# Altium schematic symbol library Display_Character.SchLib: 130 symbols (part 2 of 2)
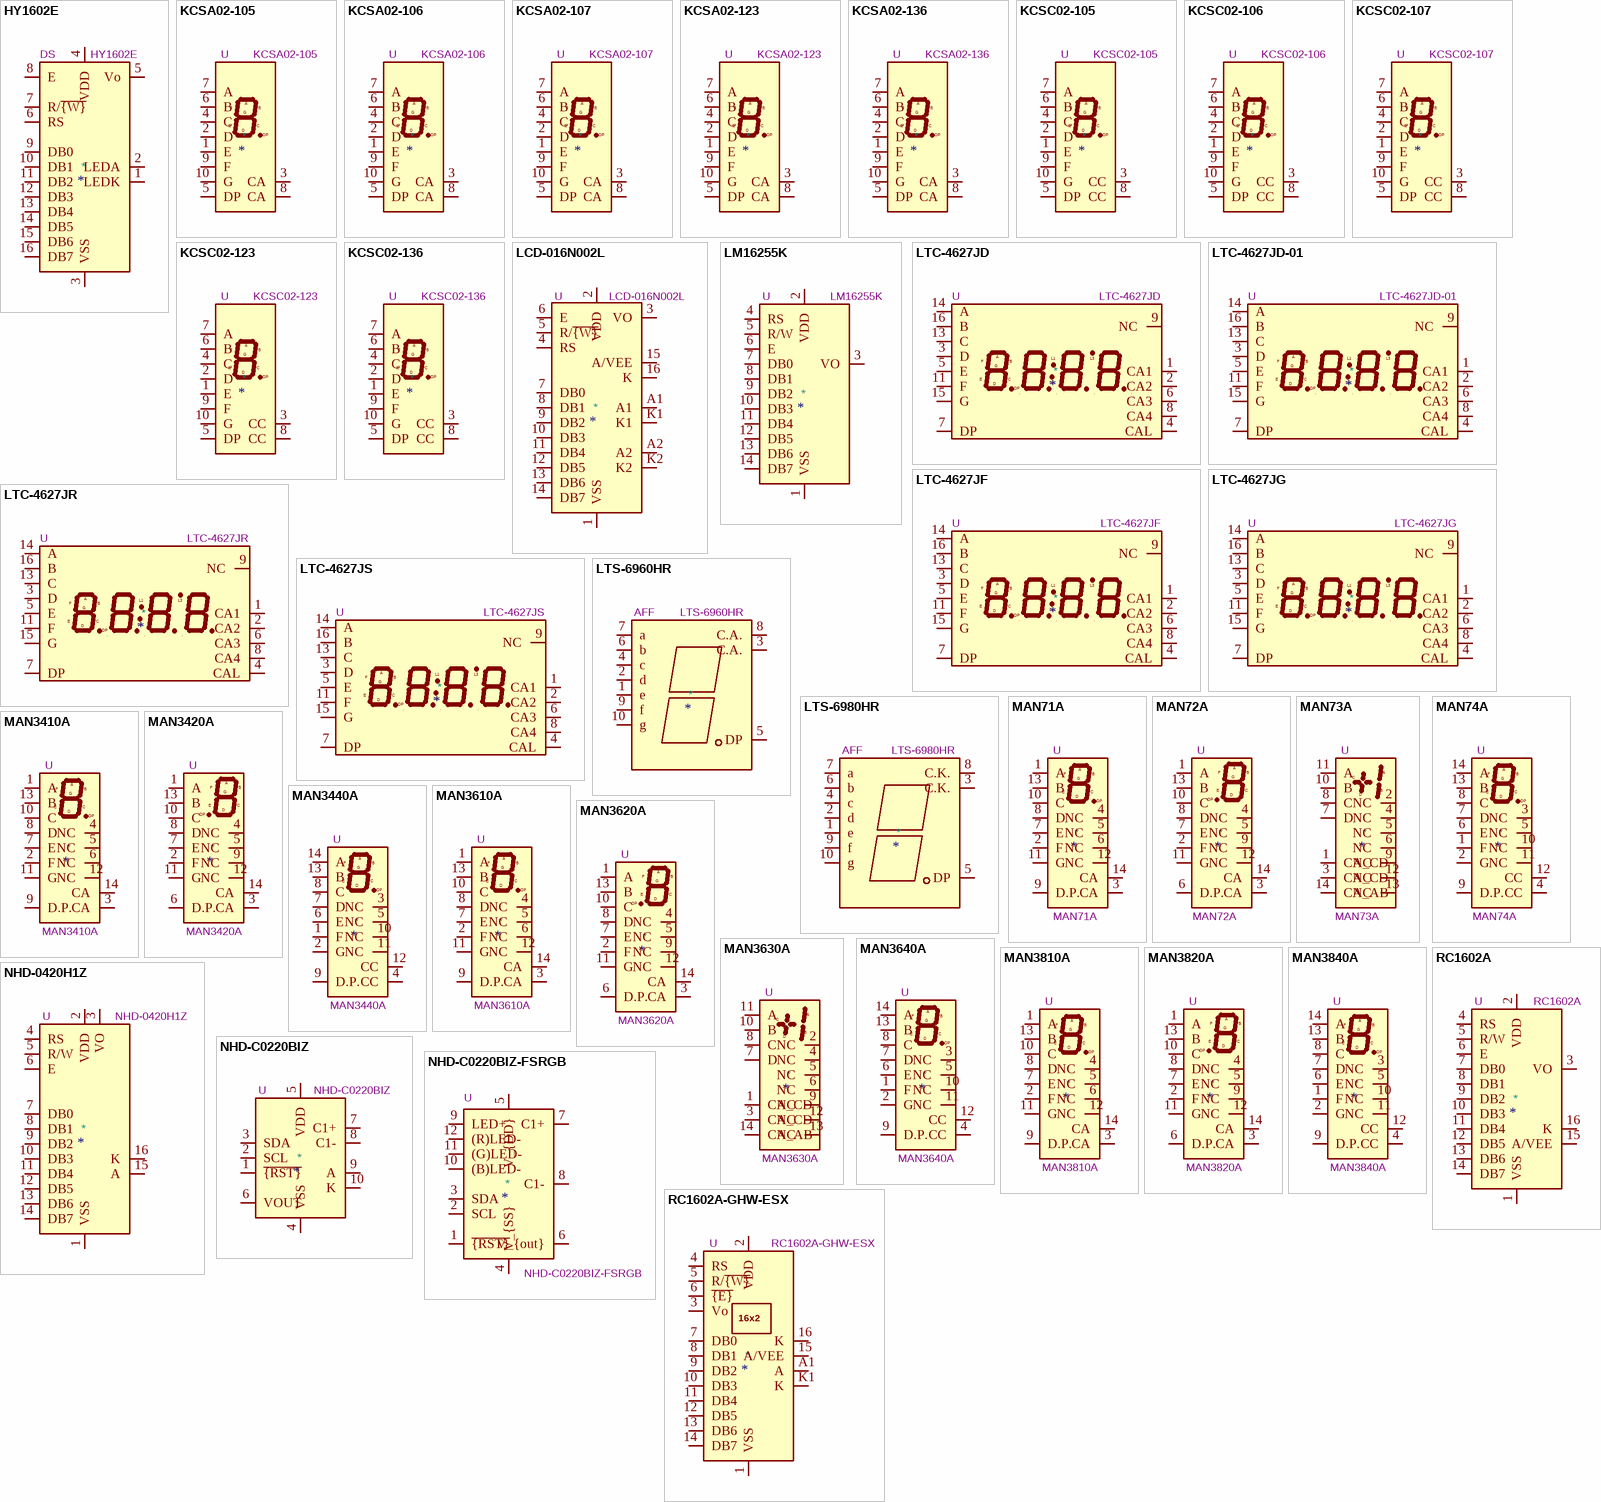
[diagram p4: symbols HY1602E to RC1602A-GHW-ESX]

## NHD-C0220BIZ
designator *  value NHD-C0220BIZ  Reference: U
LCD 20x2 Alphanumeric 10pin Blue/White/Green Backlight, i2c, 3.3V VDD; ki_keywords: display LCD 20x2; ki_fp_filters: NHD*C0220BiZ*; Footprint: Display:NHD-C0220BiZ; Datasheet: http://www.newhavendisplay.com/specs/NHD-C0220BiZ-FSW-FBW-3V3M.pdf; Description_: LCD 20x2 Alphanumeric 10pin Blue/White/Green Backlight, i2c, 3.3V VDD
pins: 1 ~{{RST}}, 2 SCL, 3 SDA, 4 VSS, 5 VDD, 6 VOUT, 7 C1+, 8 C1-, 9 A, 10 K

## NHD-C0220BIZ-FSRGB
designator *  value NHD-C0220BIZ-FSRGB  Reference: U
2x20 character LCD module with common anode RGB backlight, I2C, 3.3V; ki_keywords: lcd rgb character st736i i2c 2-wire twi; ki_fp_filters: NHD?C0220BiZ?FSRGB*; Footprint: Display:NHD-C0220BiZ-FSRGB; Datasheet: https://newhavendisplay.com/content/specs/NHD-C0220BiZ-FSRGB-FBW-3VM.pdf; Description_: 2x20 character LCD module with common anode RGB backlight, I2C, 3.3V
pins: 1 ~{{RST}}, 2 SCL, 3 SDA, 4 V_{SS}, 5 V_{DD}, 6 V_{out}, 7 C1+, 8 C1-, 9 LED+, 10 (B)LED-, 11 (G)LED-, 12 (R)LED-

## RC1602A
designator *  value RC1602A  Reference: U
LCD 16x2 Alphanumeric gray backlight, 3 or 5V VDD; ki_keywords: display LCD dot-matrix; ki_fp_filters: *RC1602A*; Footprint: Display:RC1602A; Datasheet: http://www.raystar-optronics.com/down.php?ProID=18; Description_: LCD 16x2 Alphanumeric gray backlight, 3 or 5V VDD
pins: 1 VSS, 2 VDD, 3 VO, 4 RS, 5 R/W, 6 E, 7 DB0, 8 DB1, 9 DB2, 10 DB3, 11 DB4, 12 DB5, 13 DB6, 14 DB7, 15 A/VEE, 16 K

## RC1602A-GHW-ESX
designator *  value RC1602A-GHW-ESX  Reference: U
LCD 16x2 Alphanumeric 16pin Gray Backlight; ki_keywords: display LCD dot-matrix; ki_fp_filters: RC1602A*; Footprint: Display:RC1602A; Datasheet: http://www.raystar-optronics.com/down.php?ProID=18; Description_: LCD 16x2 Alphanumeric 16pin Gray Backlight
pins: 1 VSS, 2 VDD, 3 Vo, 4 RS, 5 R/~{{W}}, 6 ~{{E}}, 7 DB0, 8 DB1, 9 DB2, 10 DB3, 11 DB4, 12 DB5, 13 DB6, 14 DB7, 15 A/VEE, 16 K, A1 A, K1 K
text: 16x2

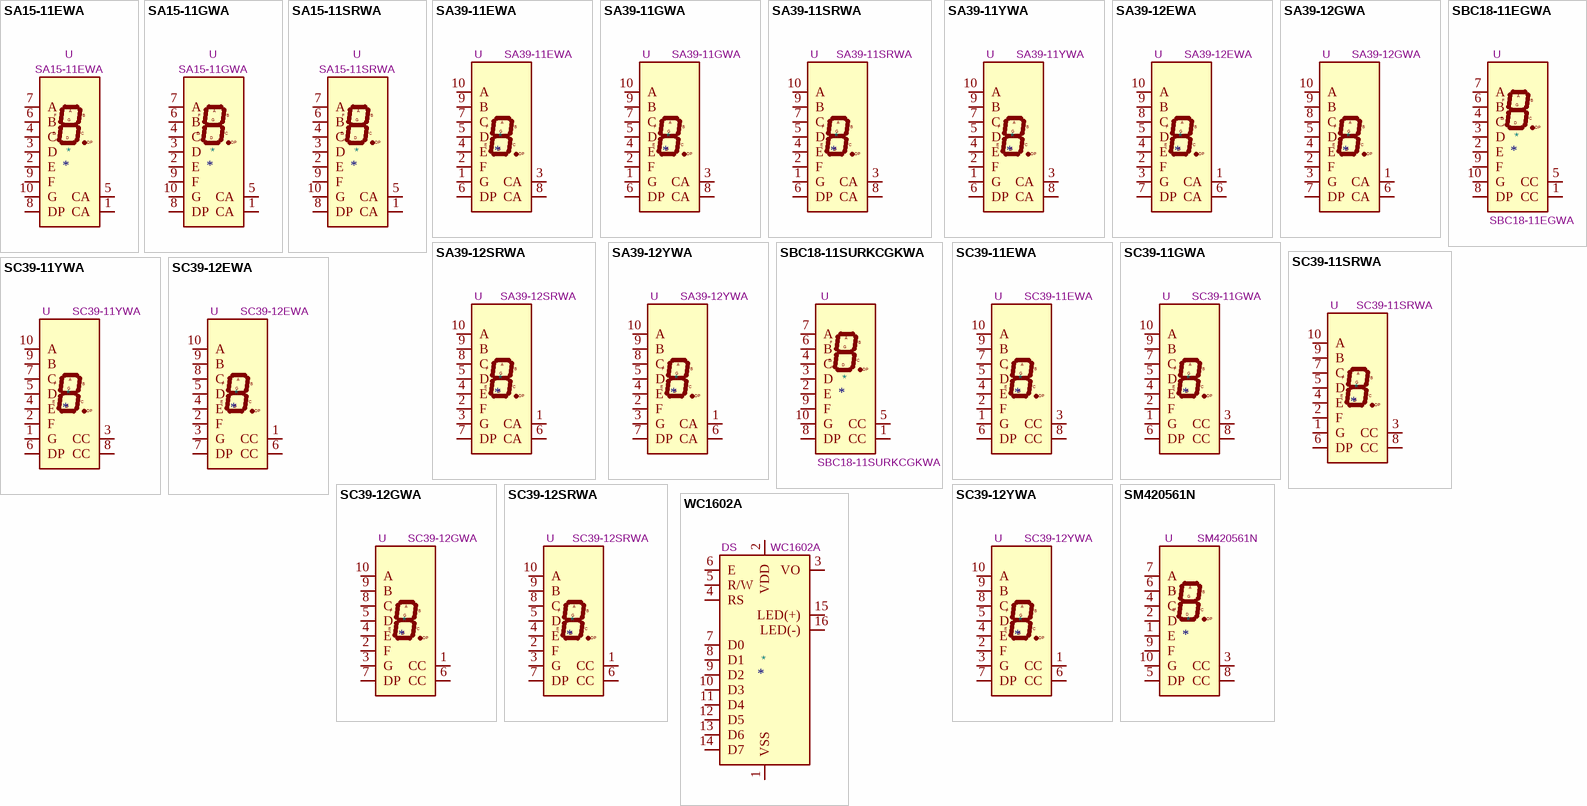
[diagram p3: symbols SA15-11EWA to WC1602A]

## SA15-11EWA
designator *  value SA15-11EWA  Reference: U
High Efficiency Red Single-digit Numeric Display with white white diffused lens, common anode; ki_keywords: display LED 7-segment; ki_fp_filters: SA15?11*; Footprint: Display_7Segment:SA15-11xxx; Datasheet: http://www.kingbrightusa.com/images/catalog/SPEC/SA15-11EWA.pdf; Description_: High Efficiency Red Single-digit Numeric Display with white white diffused lens, common anode
pins: 1 CA, 2 E, 3 D, 4 C, 5 CA, 6 B, 7 A, 8 DP, 9 F, 10 G

## SA15-11GWA
designator *  value SA15-11GWA  Reference: U
Green Single-digit Numeric Display with white white diffused lens, common anode; ki_keywords: display LED 7-segment; ki_fp_filters: SA15?11*; Footprint: Display_7Segment:SA15-11xxx; Datasheet: http://www.kingbrightusa.com/images/catalog/SPEC/SA15-11GWA.pdf; Description_: Green Single-digit Numeric Display with white white diffused lens, common anode
pins: 1 CA, 2 E, 3 D, 4 C, 5 CA, 6 B, 7 A, 8 DP, 9 F, 10 G

## SA15-11SRWA
designator *  value SA15-11SRWA  Reference: U
Super Bright Red Single-digit Numeric Display with white white diffused lens, common anode; ki_keywords: display LED 7-segment; ki_fp_filters: SA15?11*; Footprint: Display_7Segment:SA15-11xxx; Datasheet: http://www.kingbrightusa.com/images/catalog/SPEC/SA15-11SRWA.pdf; Description_: Super Bright Red Single-digit Numeric Display with white white diffused lens, common anode
pins: 1 CA, 2 E, 3 D, 4 C, 5 CA, 6 B, 7 A, 8 DP, 9 F, 10 G

## SA39-11EWA
designator *  value SA39-11EWA  Reference: U
Single digit 7 segment display, high efficiency red, common anode; ki_keywords: display LED 7-segment; ki_fp_filters: S?39?1*; Footprint: Display_7Segment:Sx39-1xxxxx; Datasheet: http://www.kingbrightusa.com/images/catalog/SPEC/sa39-11ewa.pdf; Description_: Single digit 7 segment display, high efficiency red, common anode
pins: 1 G, 2 F, 3 CA, 4 E, 5 D, 6 DP, 7 C, 8 CA, 9 B, 10 A

## SA39-11GWA
designator *  value SA39-11GWA  Reference: U
Single digit 7 segment display, green, common anode; ki_keywords: display LED 7-segment; ki_fp_filters: S?39?1*; Footprint: Display_7Segment:Sx39-1xxxxx; Datasheet: http://www.kingbrightusa.com/images/catalog/SPEC/sa39-11gwa.pdf; Description_: Single digit 7 segment display, green, common anode
pins: 1 G, 2 F, 3 CA, 4 E, 5 D, 6 DP, 7 C, 8 CA, 9 B, 10 A

## SA39-11SRWA
designator *  value SA39-11SRWA  Reference: U
Single digit 7 segment display, super bright red, common anode; ki_keywords: display LED 7-segment; ki_fp_filters: S?39?1*; Footprint: Display_7Segment:Sx39-1xxxxx; Datasheet: http://www.kingbrightusa.com/images/catalog/SPEC/sa39-11srwa.pdf; Description_: Single digit 7 segment display, super bright red, common anode
pins: 1 G, 2 F, 3 CA, 4 E, 5 D, 6 DP, 7 C, 8 CA, 9 B, 10 A

## SA39-11YWA
designator *  value SA39-11YWA  Reference: U
Single digit 7 segment display, yellow, common anode; ki_keywords: display LED 7-segment; ki_fp_filters: S?39?1*; Footprint: Display_7Segment:Sx39-1xxxxx; Datasheet: http://www.kingbrightusa.com/images/catalog/SPEC/sa39-11ywa.pdf; Description_: Single digit 7 segment display, yellow, common anode
pins: 1 G, 2 F, 3 CA, 4 E, 5 D, 6 DP, 7 C, 8 CA, 9 B, 10 A

## SA39-12EWA
designator *  value SA39-12EWA  Reference: U
Single digit 7 segment display, high efficiency red, common anode; ki_keywords: display LED 7-segment; ki_fp_filters: S?39?1*; Footprint: Display_7Segment:Sx39-1xxxxx; Datasheet: http://www.kingbrightusa.com/images/catalog/SPEC/sa39-12ewa.pdf; Description_: Single digit 7 segment display, high efficiency red, common anode
pins: 1 CA, 2 F, 3 G, 4 E, 5 D, 6 CA, 7 DP, 8 C, 9 B, 10 A

## SA39-12GWA
designator *  value SA39-12GWA  Reference: U
Single digit 7 segment display, green, common anode; ki_keywords: display LED 7-segment; ki_fp_filters: S?39?1*; Footprint: Display_7Segment:Sx39-1xxxxx; Datasheet: http://www.kingbrightusa.com/images/catalog/SPEC/sa39-12gwa.pdf; Description_: Single digit 7 segment display, green, common anode
pins: 1 CA, 2 F, 3 G, 4 E, 5 D, 6 CA, 7 DP, 8 C, 9 B, 10 A

## SA39-12SRWA
designator *  value SA39-12SRWA  Reference: U
Single digit 7 segment display, super bright red, common anode; ki_keywords: display LED 7-segment; ki_fp_filters: S?39?1*; Footprint: Display_7Segment:Sx39-1xxxxx; Datasheet: http://www.kingbrightusa.com/images/catalog/SPEC/sa39-12srwa.pdf; Description_: Single digit 7 segment display, super bright red, common anode
pins: 1 CA, 2 F, 3 G, 4 E, 5 D, 6 CA, 7 DP, 8 C, 9 B, 10 A

## SA39-12YWA
designator *  value SA39-12YWA  Reference: U
Single digit 7 segment display, yellow, common anode; ki_keywords: display LED 7-segment; ki_fp_filters: S?39?1*; Footprint: Display_7Segment:Sx39-1xxxxx; Datasheet: http://www.kingbrightusa.com/images/catalog/SPEC/sa39-12ywa.pdf; Description_: Single digit 7 segment display, yellow, common anode
pins: 1 CA, 2 F, 3 G, 4 E, 5 D, 6 CA, 7 DP, 8 C, 9 B, 10 A

## SBC18-11EGWA
designator *  value SBC18-11EGWA  Reference: U
Single digit 7 segment hyper red and green LED display, common cathode; ki_keywords: display LED 7-segment; ki_fp_filters: *SBC18*11*; Footprint: Display_7Segment:SBC18-11SURKCGKWA; Datasheet: http://www.kingbrightusa.com/images/catalog/SPEC/SBC18-11EGWA.pdf; Description_: Single digit 7 segment hyper red and green LED display, common cathode
pins: 1 CC, 2 E, 3 D, 4 C, 5 CC, 6 B, 7 A, 8 DP, 9 F, 10 G

## SBC18-11SURKCGKWA
designator *  value SBC18-11SURKCGKWA  Reference: U
Single digit 7 segment hyper red and green LED display, common cathode; ki_keywords: display LED 7-segment; ki_fp_filters: *SBC18*11*; Footprint: Display_7Segment:SBC18-11SURKCGKWA; Datasheet: http://www.kingbright.com/attachments/file/psearch/000/00/00/SBC18-11SURKCGKWA(Ver.6A).pdf; Description_: Single digit 7 segment hyper red and green LED display, common cathode
pins: 1 CC, 2 E, 3 D, 4 C, 5 CC, 6 B, 7 A, 8 DP, 9 F, 10 G

## SC39-11EWA
designator *  value SC39-11EWA  Reference: U
Single digit 7 segment display, high efficiency red, common cathode; ki_keywords: display LED 7-segment; ki_fp_filters: S?39?1*; Footprint: Display_7Segment:Sx39-1xxxxx; Datasheet: http://www.kingbrightusa.com/images/catalog/SPEC/sc39-11ewa.pdf; Description_: Single digit 7 segment display, high efficiency red, common cathode
pins: 1 G, 2 F, 3 CC, 4 E, 5 D, 6 DP, 7 C, 8 CC, 9 B, 10 A

## SC39-11GWA
designator *  value SC39-11GWA  Reference: U
Single digit 7 segment display, green, common cathode; ki_keywords: display LED 7-segment; ki_fp_filters: S?39?1*; Footprint: Display_7Segment:Sx39-1xxxxx; Datasheet: http://www.kingbrightusa.com/images/catalog/SPEC/sc39-11gwa.pdf; Description_: Single digit 7 segment display, green, common cathode
pins: 1 G, 2 F, 3 CC, 4 E, 5 D, 6 DP, 7 C, 8 CC, 9 B, 10 A

## SC39-11SRWA
designator *  value SC39-11SRWA  Reference: U
Single digit 7 segment display, super bright red, common cathode; ki_keywords: display LED 7-segment; ki_fp_filters: S?39?1*; Footprint: Display_7Segment:Sx39-1xxxxx; Datasheet: http://www.kingbrightusa.com/images/catalog/SPEC/sc39-11srwa.pdf; Description_: Single digit 7 segment display, super bright red, common cathode
pins: 1 G, 2 F, 3 CC, 4 E, 5 D, 6 DP, 7 C, 8 CC, 9 B, 10 A

## SC39-11YWA
designator *  value SC39-11YWA  Reference: U
Single digit 7 segment display, yellow, common cathode; ki_keywords: display LED 7-segment; ki_fp_filters: S?39?1*; Footprint: Display_7Segment:Sx39-1xxxxx; Datasheet: http://www.kingbrightusa.com/images/catalog/SPEC/sc39-11ywa.pdf; Description_: Single digit 7 segment display, yellow, common cathode
pins: 1 G, 2 F, 3 CC, 4 E, 5 D, 6 DP, 7 C, 8 CC, 9 B, 10 A

## SC39-12EWA
designator *  value SC39-12EWA  Reference: U
Single digit 7 segment display, high efficiency red, common cathode; ki_keywords: display LED 7-segment; ki_fp_filters: S?39?1*; Footprint: Display_7Segment:Sx39-1xxxxx; Datasheet: http://www.kingbrightusa.com/images/catalog/SPEC/sc39-12ewa.pdf; Description_: Single digit 7 segment display, high efficiency red, common cathode
pins: 1 CC, 2 F, 3 G, 4 E, 5 D, 6 CC, 7 DP, 8 C, 9 B, 10 A

## SC39-12GWA
designator *  value SC39-12GWA  Reference: U
Single digit 7 segment display, green, common cathode; ki_keywords: display LED 7-segment; ki_fp_filters: S?39?1*; Footprint: Display_7Segment:Sx39-1xxxxx; Datasheet: http://www.kingbrightusa.com/images/catalog/SPEC/sc39-12gwa.pdf; Description_: Single digit 7 segment display, green, common cathode
pins: 1 CC, 2 F, 3 G, 4 E, 5 D, 6 CC, 7 DP, 8 C, 9 B, 10 A

## SC39-12SRWA
designator *  value SC39-12SRWA  Reference: U
Single digit 7 segment display, super bright red, common cathode; ki_keywords: display LED 7-segment; ki_fp_filters: S?39?1*; Footprint: Display_7Segment:Sx39-1xxxxx; Datasheet: http://www.kingbrightusa.com/images/catalog/SPEC/sc39-12srwa.pdf; Description_: Single digit 7 segment display, super bright red, common cathode
pins: 1 CC, 2 F, 3 G, 4 E, 5 D, 6 CC, 7 DP, 8 C, 9 B, 10 A

## SC39-12YWA
designator *  value SC39-12YWA  Reference: U
Single digit 7 segment display, yellow, common cathode; ki_keywords: display LED 7-segment; ki_fp_filters: S?39?1*; Footprint: Display_7Segment:Sx39-1xxxxx; Datasheet: http://www.kingbrightusa.com/images/catalog/SPEC/sc39-12ywa.pdf; Description_: Single digit 7 segment display, yellow, common cathode
pins: 1 CC, 2 F, 3 G, 4 E, 5 D, 6 CC, 7 DP, 8 C, 9 B, 10 A

## SM420561N
designator *  value SM420561N  Reference: U
One digit 7 segment blue LED, common cathode; ki_keywords: display LED 7-segment; ki_fp_filters: 7SegmentLED?LTS6760?LTS6780*; Footprint: Display_7Segment:7SegmentLED_LTS6760_LTS6780; Datasheet: https://datasheet.lcsc.com/szlcsc/Wuxi-ARK-Tech-Elec-SM420561N_C141367.pdf; Description_: One digit 7 segment blue LED, common cathode
pins: 1 E, 2 D, 3 CC, 4 C, 5 DP, 6 B, 7 A, 8 CC, 9 F, 10 G

## WC1602A
designator *  value WC1602A  Reference: DS
LCD 16x2 Alphanumeric , 8 bit parallel bus, 5V VDD; ki_keywords: display LCD dot-matrix; ki_fp_filters: *WC*1602A*; Footprint: Display:WC1602A; Datasheet: http://www.wincomlcd.com/pdf/WC1602A-SFYLYHTC06.pdf; Description_: LCD 16x2 Alphanumeric , 8 bit parallel bus, 5V VDD
pins: 1 VSS, 2 VDD, 3 VO, 4 RS, 5 R/W, 6 E, 7 D0, 8 D1, 9 D2, 10 D3, 11 D4, 12 D5, 13 D6, 14 D7, 15 LED(+), 16 LED(-)